# Altium schematic symbol library Picoblade 6 pin Vertical.SchLib: 1 symbol
Pins are listed as number, name and electrical type; pins without a type are passive.

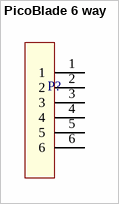
[diagram p0: symbol PicoBlade 6 way]

## PicoBlade 6 way
designator P?  (value not drawn)
footprint P? (PicoBlade 6 way Vertical)
pins: 1, 2, 3, 4, 5, 6